# Altium schematic symbol library Connectors.SchLib: 32 symbols
Pins are listed as number, name and electrical type; pins without a type are passive.

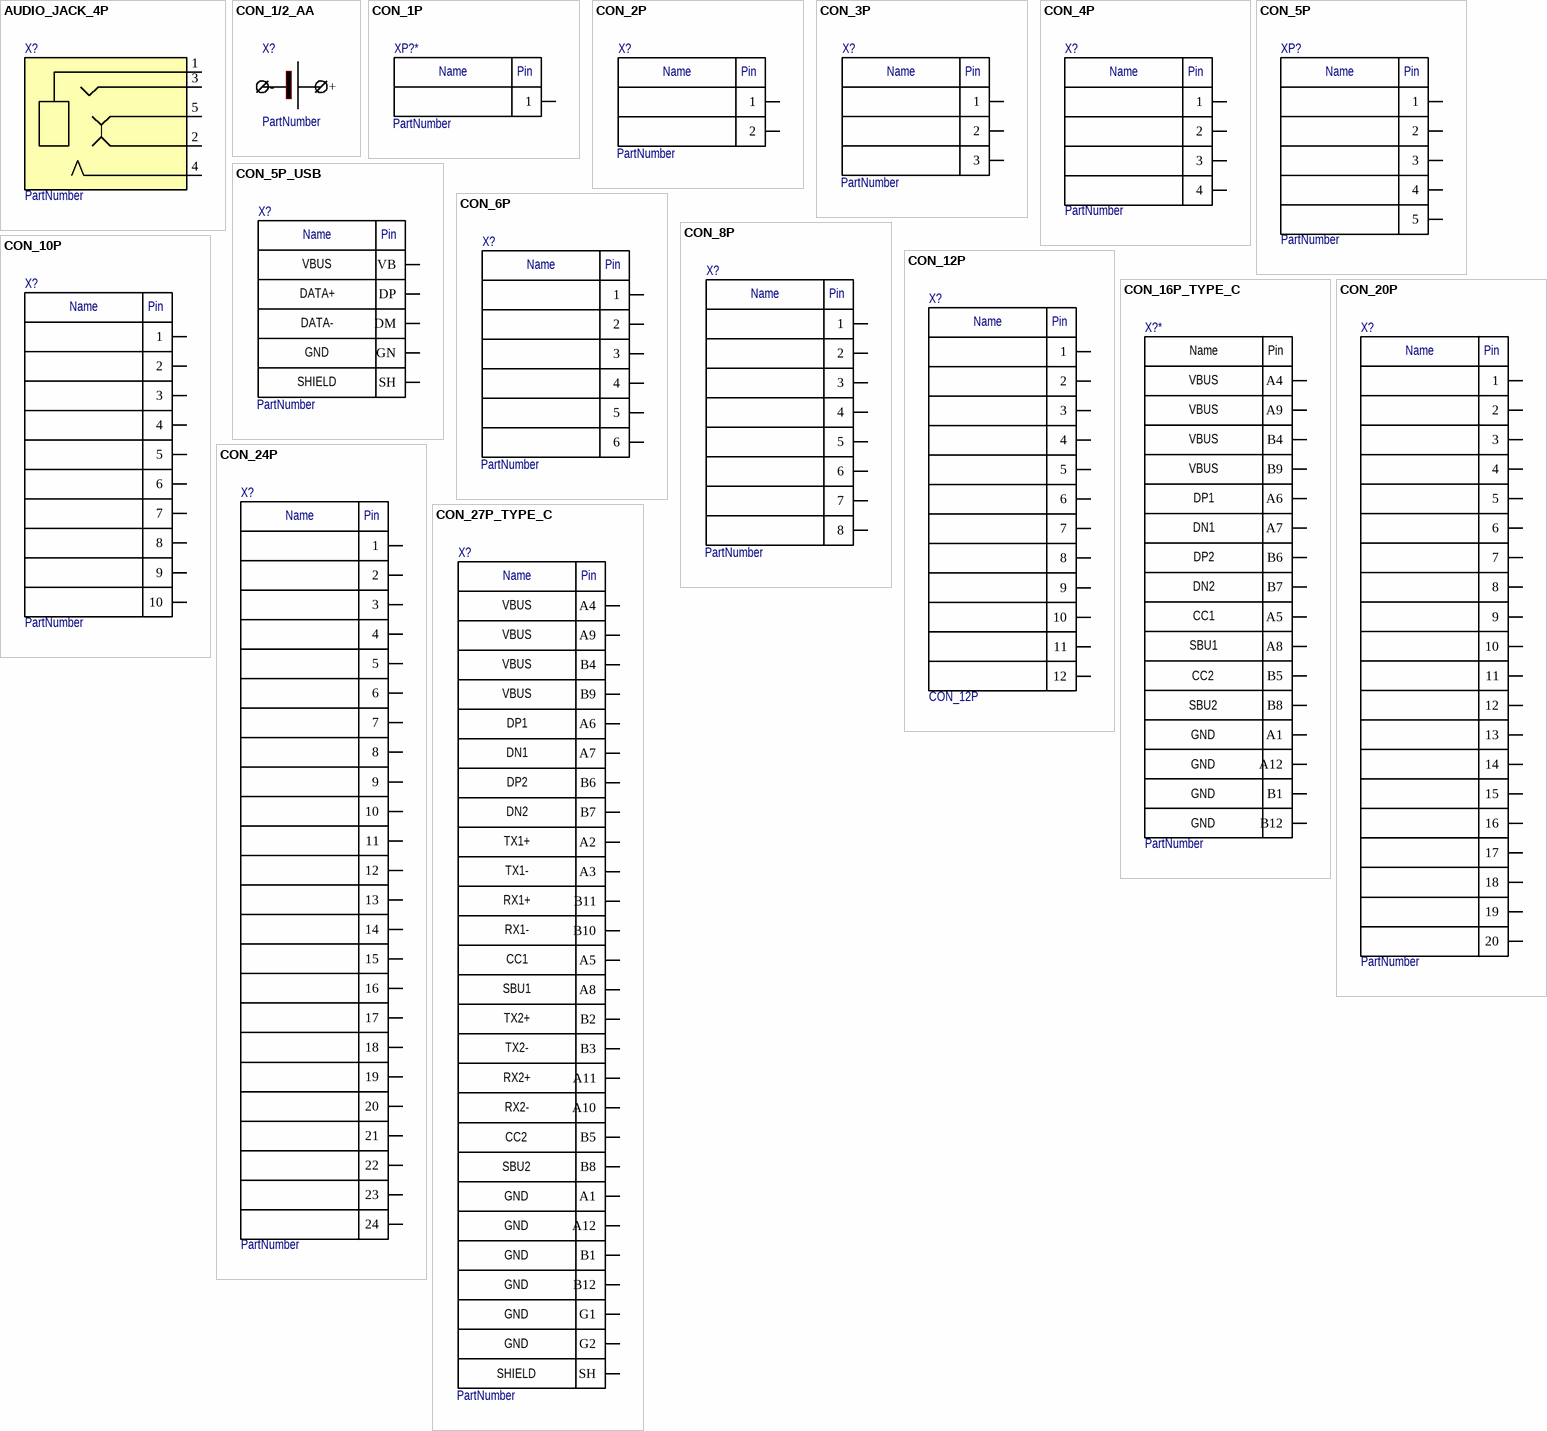
[diagram p0: symbols AUDIO_JACK_4P to CON_27P_TYPE_C]

## AUDIO_JACK_4P
designator X?  (value not drawn)
Audio jack standard 4 pins; PartNumber: PartNumber
pins: 1, 2, 3, 4, 5

## CON_1/2_AA
designator X?  (value not drawn)
Connector for 1/2 AA LiSOCl2 battery; PartNumber: PartNumber
pins: +, -

## CON_1P
designator XP?*  (value not drawn)
PartNumber: PartNumber
pins: 1
text: Name; Pin

## CON_2P
designator X?  (value not drawn)
Connector 2 pin; PartNumber: PartNumber
pins: 1, 2
text: Name; Pin

## CON_3P
designator X?  (value not drawn)
Connector 3 pin; PartNumber: PartNumber
pins: 1, 2, 3
text: Name; Pin

## CON_4P
designator X?  (value not drawn)
PartNumber: PartNumber
pins: 0 HOLE, 1, 2, 3, 4
text: Name; Pin

## CON_5P
designator XP?  (value not drawn)
Connector 5 pin; PartNumber: PartNumber
pins: 1, 2, 3, 4, 5
text: Name; Pin

## CON_5P_USB
designator X?  (value not drawn)
PartNumber: PartNumber
pins: DM, DP, GN, SH, VB
text: Name; Pin; VBUS; DATA+; DATA-; GND; SHIELD

## CON_6P
designator X?  (value not drawn)
PartNumber: PartNumber
pins: 0 HOLE, 1, 2, 3, 4, 5, 6
text: Name; Pin

## CON_8P
designator X?  (value not drawn)
PartNumber: PartNumber
pins: 1, 2, 3, 4, 5, 6, 7, 8
text: Name; Pin

## CON_10P
designator X?  (value not drawn)
Connector 10 pin; PartNumber: PartNumber
pins: 1, 2, 3, 4, 5, 6, 7, 8, 9, 10
text: Name; Pin

## CON_12P
designator X?
Connector 12 pin
pins: 1, 2, 3, 4, 5, 6, 7, 8, 9, 10, 11, 12
text: Name; Pin

## CON_16P_TYPE_C
designator X?*  (value not drawn)
PartNumber: PartNumber
pins: A1, A4, A5, A6, A7, A8, A9, A12, B1, B4, B5, B6, B7, B8, B9, B12
text: Name; Pin; VBUS; DP1; DN1; DP2; DN2; CC1; SBU1; CC2; SBU2; GND

## CON_20P
designator X?  (value not drawn)
Connector 10 pin; PartNumber: PartNumber
pins: 1, 2, 3, 4, 5, 6, 7, 8, 9, 10, 11, 12, 13, 14, 15, 16, 17, 18, 19, 20
text: Name; Pin

## CON_24P
designator X?  (value not drawn)
Connector 24 pin; PartNumber: PartNumber
pins: 1, 2, 3, 4, 5, 6, 7, 8, 9, 10, 11, 12, 13, 14, 15, 16, 17, 18, 19, 20, 21, 22, 23, 24
text: Name; Pin

## CON_27P_TYPE_C
designator X?  (value not drawn)
PartNumber: PartNumber
pins: A1, A2, A3, A4, A5, A6, A7, A8, A9, A10, A11, A12, B1, B2, B3, B4, B5, B6, B7, B8, B9, B10, B11, B12, G1, G2, SH
text: Name; Pin; VBUS; DP1; DN1; DP2; DN2; TX1+; TX1-; RX1+; RX1-; CC1; SBU1; TX2+; TX2-; RX2+; RX2-; CC2; SBU2; GND; SHIELD

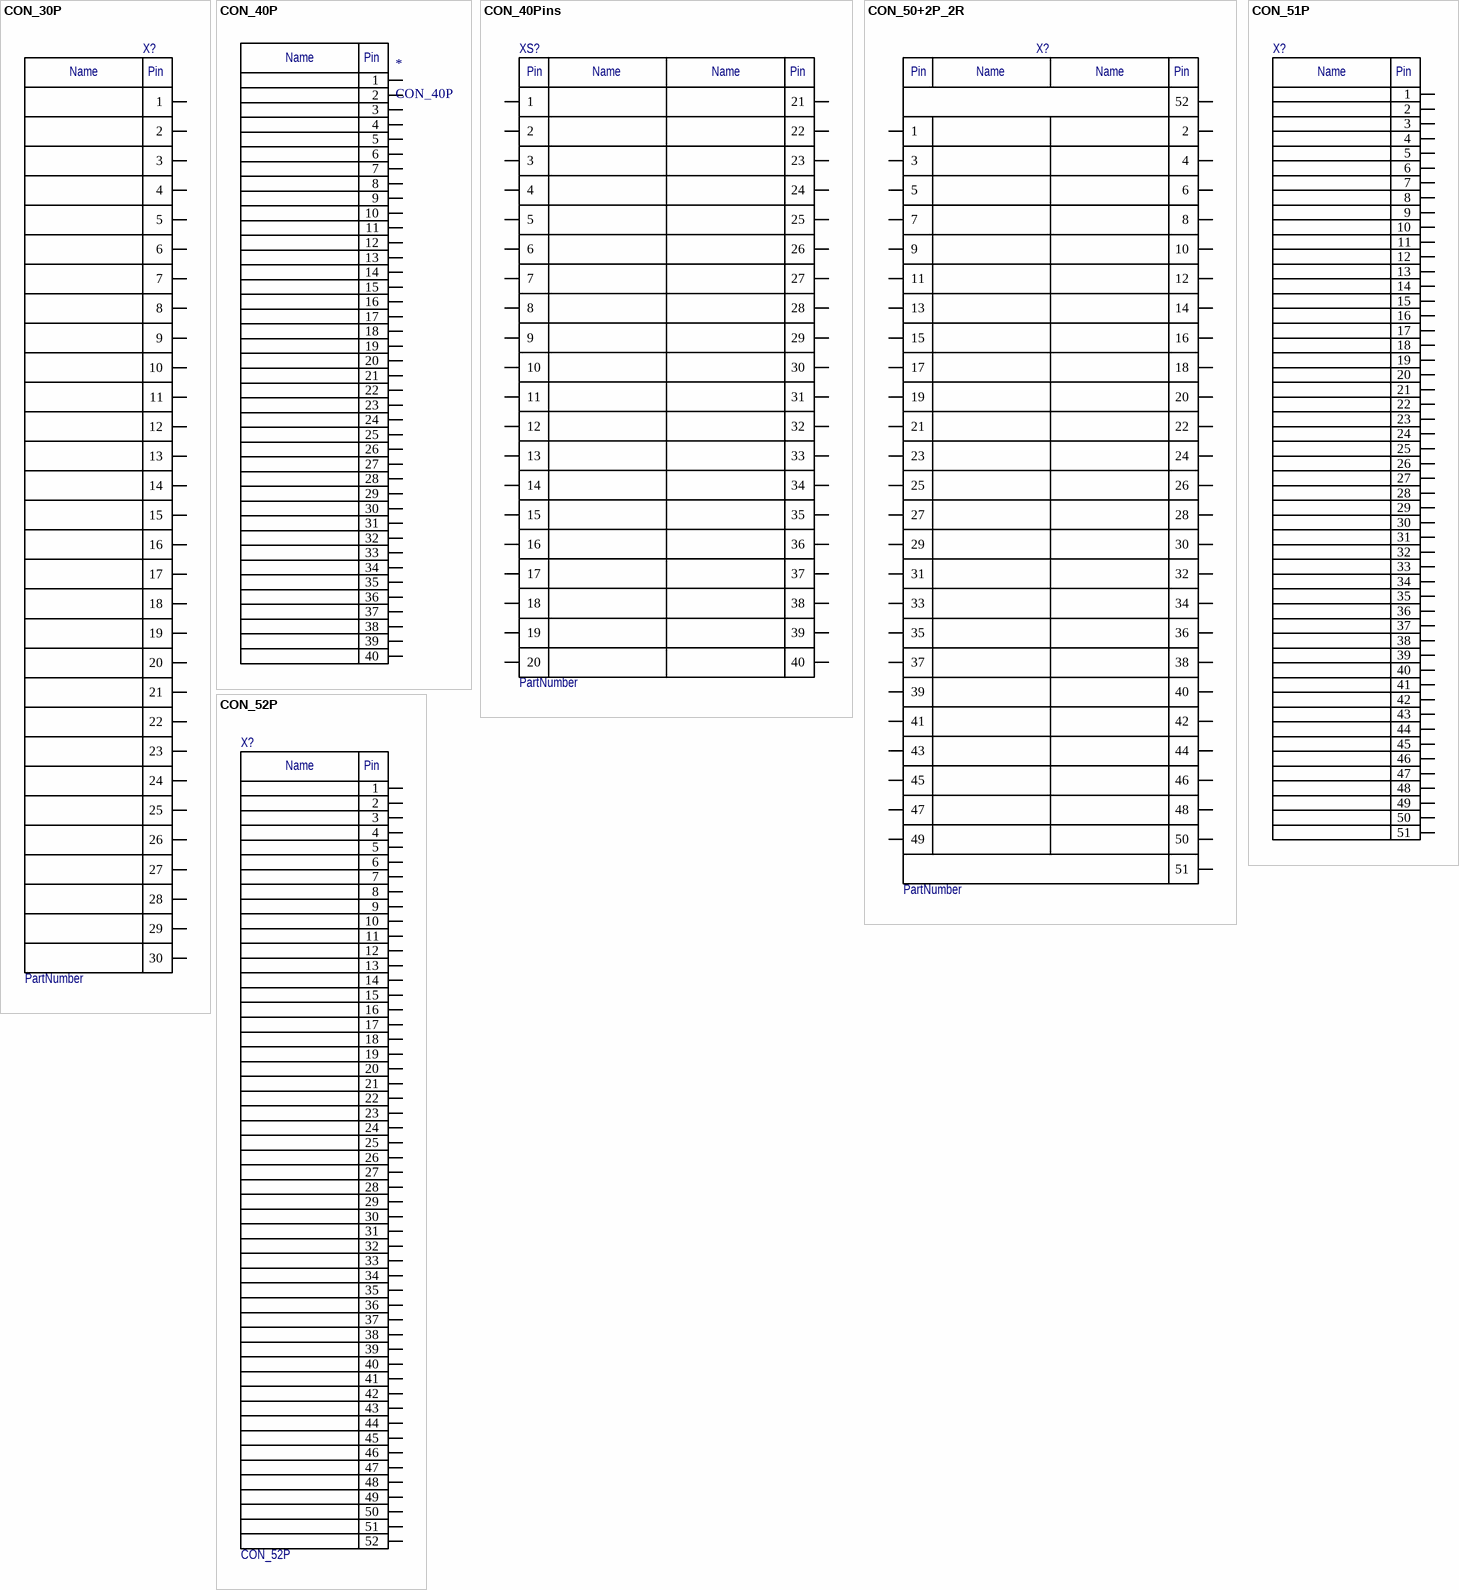
[diagram p1: symbols CON_30P to CON_52P]

## CON_30P
designator X?  (value not drawn)
Connector 30 pin; PartNumber: PartNumber
pins: 1, 2, 3, 4, 5, 6, 7, 8, 9, 10, 11, 12, 13, 14, 15, 16, 17, 18, 19, 20, 21, 22, 23, 24, 25, 26, 27, 28, 29, 30
text: Name; Pin

## CON_40P
designator *
Connector 40 pin; PartNumber: PartNumber
pins: 1, 2, 3, 4, 5, 6, 7, 8, 9, 10, 11, 12, 13, 14, 15, 16, 17, 18, 19, 20, 21, 22, 23, 24, 25, 26, 27, 28, 29, 30, 31, 32, 33, 34, 35, 36, 37, 38, 39, 40
text: Name; Pin

## CON_40Pins
designator XS?  (value not drawn)
40-pin socket; PartNumber: PartNumber
pins: 1, 2, 3, 4, 5, 6, 7, 8, 9, 10, 11, 12, 13, 14, 15, 16, 17, 18, 19, 20, 21, 22, 23, 24, 25, 26, 27, 28, 29, 30, 31, 32, 33, 34, 35, 36, 37, 38, 39, 40
text: Pin; Name

## CON_50+2P_2R
designator X?  (value not drawn)
Connector 50 + 2 pin (shield) 2rows; PartNumber: PartNumber
pins: 1, 2, 3, 4, 5, 6, 7, 8, 9, 10, 11, 12, 13, 14, 15, 16, 17, 18, 19, 20, 21, 22, 23, 24, 25, 26, 27, 28, 29, 30, 31, 32, 33, 34, 35, 36, 37, 38, 39, 40, 41, 42, 43, 44, 45, 46, 47, 48, 49, 50, 51, 52
text: Pin; Name

## CON_51P
designator X?  (value not drawn)
Connector 51 pin
pins: 1, 2, 3, 4, 5, 6, 7, 8, 9, 10, 11, 12, 13, 14, 15, 16, 17, 18, 19, 20, 21, 22, 23, 24, 25, 26, 27, 28, 29, 30, 31, 32, 33, 34, 35, 36, 37, 38, 39, 40, 41, 42, 43, 44, 45, 46, 47, 48, 49, 50, 51
text: Name; Pin

## CON_52P
designator X?
Connector 52 pin; PartNumber: PartNumber
pins: 1, 2, 3, 4, 5, 6, 7, 8, 9, 10, 11, 12, 13, 14, 15, 16, 17, 18, 19, 20, 21, 22, 23, 24, 25, 26, 27, 28, 29, 30, 31, 32, 33, 34, 35, 36, 37, 38, 39, 40, 41, 42, 43, 44, 45, 46, 47, 48, 49, 50, 51, 52
text: Name; Pin

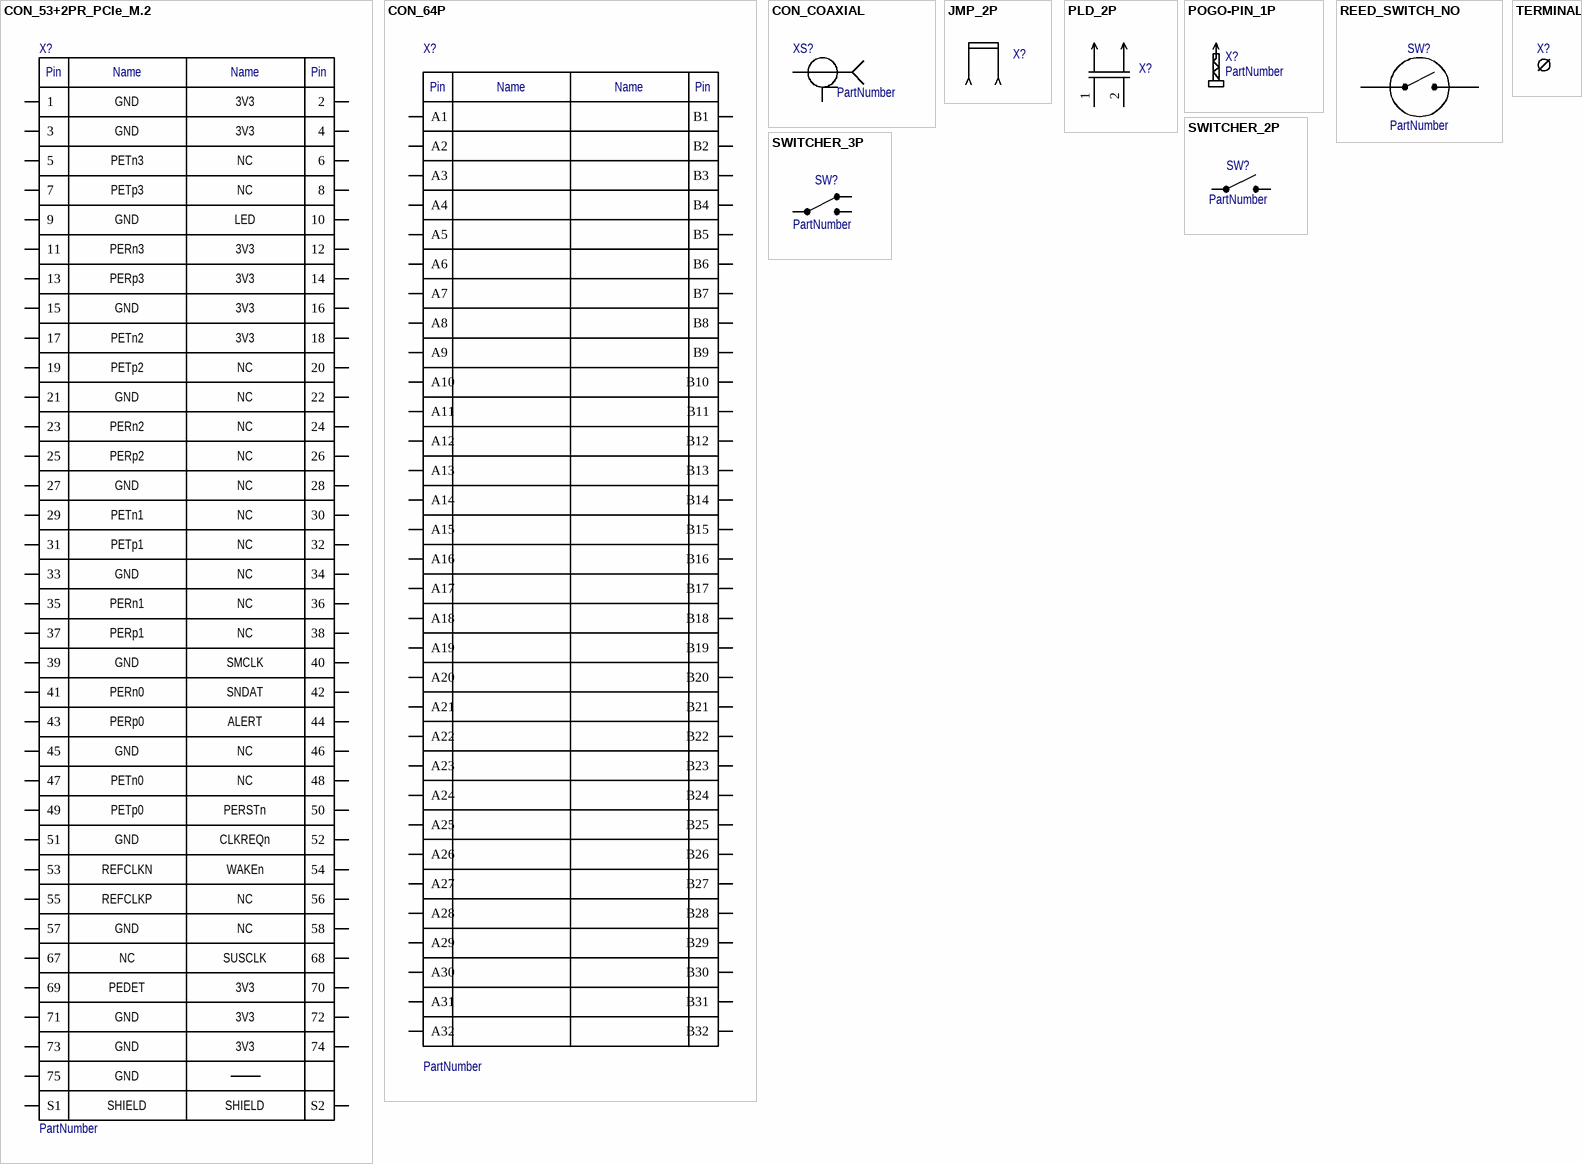
[diagram p2: symbols CON_53+2PR_PCIe_M.2 to TERMINAL]

## CON_53+2PR_PCIe_M.2
designator X?  (value not drawn)
PartNumber: PartNumber
pins: 1, 2, 3, 4, 5, 6, 7, 8, 9, 10, 11, 12, 13, 14, 15, 16, 17, 18, 19, 20, 21, 22, 23, 24, 25, 26, 27, 28, 29, 30, 31, 32, 33, 34, 35, 36, 37, 38, 39, 40, 41, 42, 43, 44, 45, 46, 47, 48, 49, 50, 51, 52, 53, 54, 55, 56, 57, 58, 67, 68, 69, 70, 71, 72, 73, 74, 75, S1, S2
text: Pin; Name; GND; 3V3; PETn3; NC; PETp3; LED; PERn3; PERp3; PETn2; PETp2; PERn2; PERp2; PETn1; PETp1; PERn1; PERp1; SMCLK; PERn0; SNDAT; PERp0; ALERT; PETn0; PETp0; PERSTn; CLKREQn; REFCLKN; WAKEn; REFCLKP; SUSCLK; PEDET; SHIELD

## CON_64P
designator X?  (value not drawn)
Connector 64 pins; PartNumber: PartNumber
pins: A1, A2, A3, A4, A5, A6, A7, A8, A9, A10, A11, A12, A13, A14, A15, A16, A17, A18, A19, A20, A21, A22, A23, A24, A25, A26, A27, A28, A29, A30, A31, A32, B1, B2, B3, B4, B5, B6, B7, B8, B9, B10, B11, B12, B13, B14, B15, B16, B17, B18, B19, B20, B21, B22, B23, B24, B25, B26, B27, B28, B29, B30, B31, B32
text: Pin; Name

## CON_COAXIAL
designator XS?  (value not drawn)
Coaxial connector jack; PartNumber: PartNumber
pins: 1, 2 GND

## JMP_2P
designator X?  (value not drawn)
Jumper

## PLD_2P
designator X?  (value not drawn)
PLD 2 pins
pins: 1, 2

## POGO-PIN_1P
designator X?  (value not drawn)
Pogo-pin 1pin symbol; PartNumber: PartNumber
pins: 1

## REED_SWITCH_NO
designator SW?  (value not drawn)
Замыкающий герметичный контакт; PartNumber: PartNumber
pins: 1, 2

## SWITCHER_2P
designator SW?  (value not drawn)
Switcher 2 pins; PartNumber: PartNumber
pins: 1, 2

## SWITCHER_3P
designator SW?  (value not drawn)
Switcher 3 pins; PartNumber: PartNumber
pins: 1, 2, 3

## TERMINAL
designator X?  (value not drawn)
Terminal connector
pins: 1